# Altium schematic symbol library Schlib1.SchLib: 19 symbols (part 1 of 2)
Pins are listed as number, name and electrical type; pins without a type are passive.

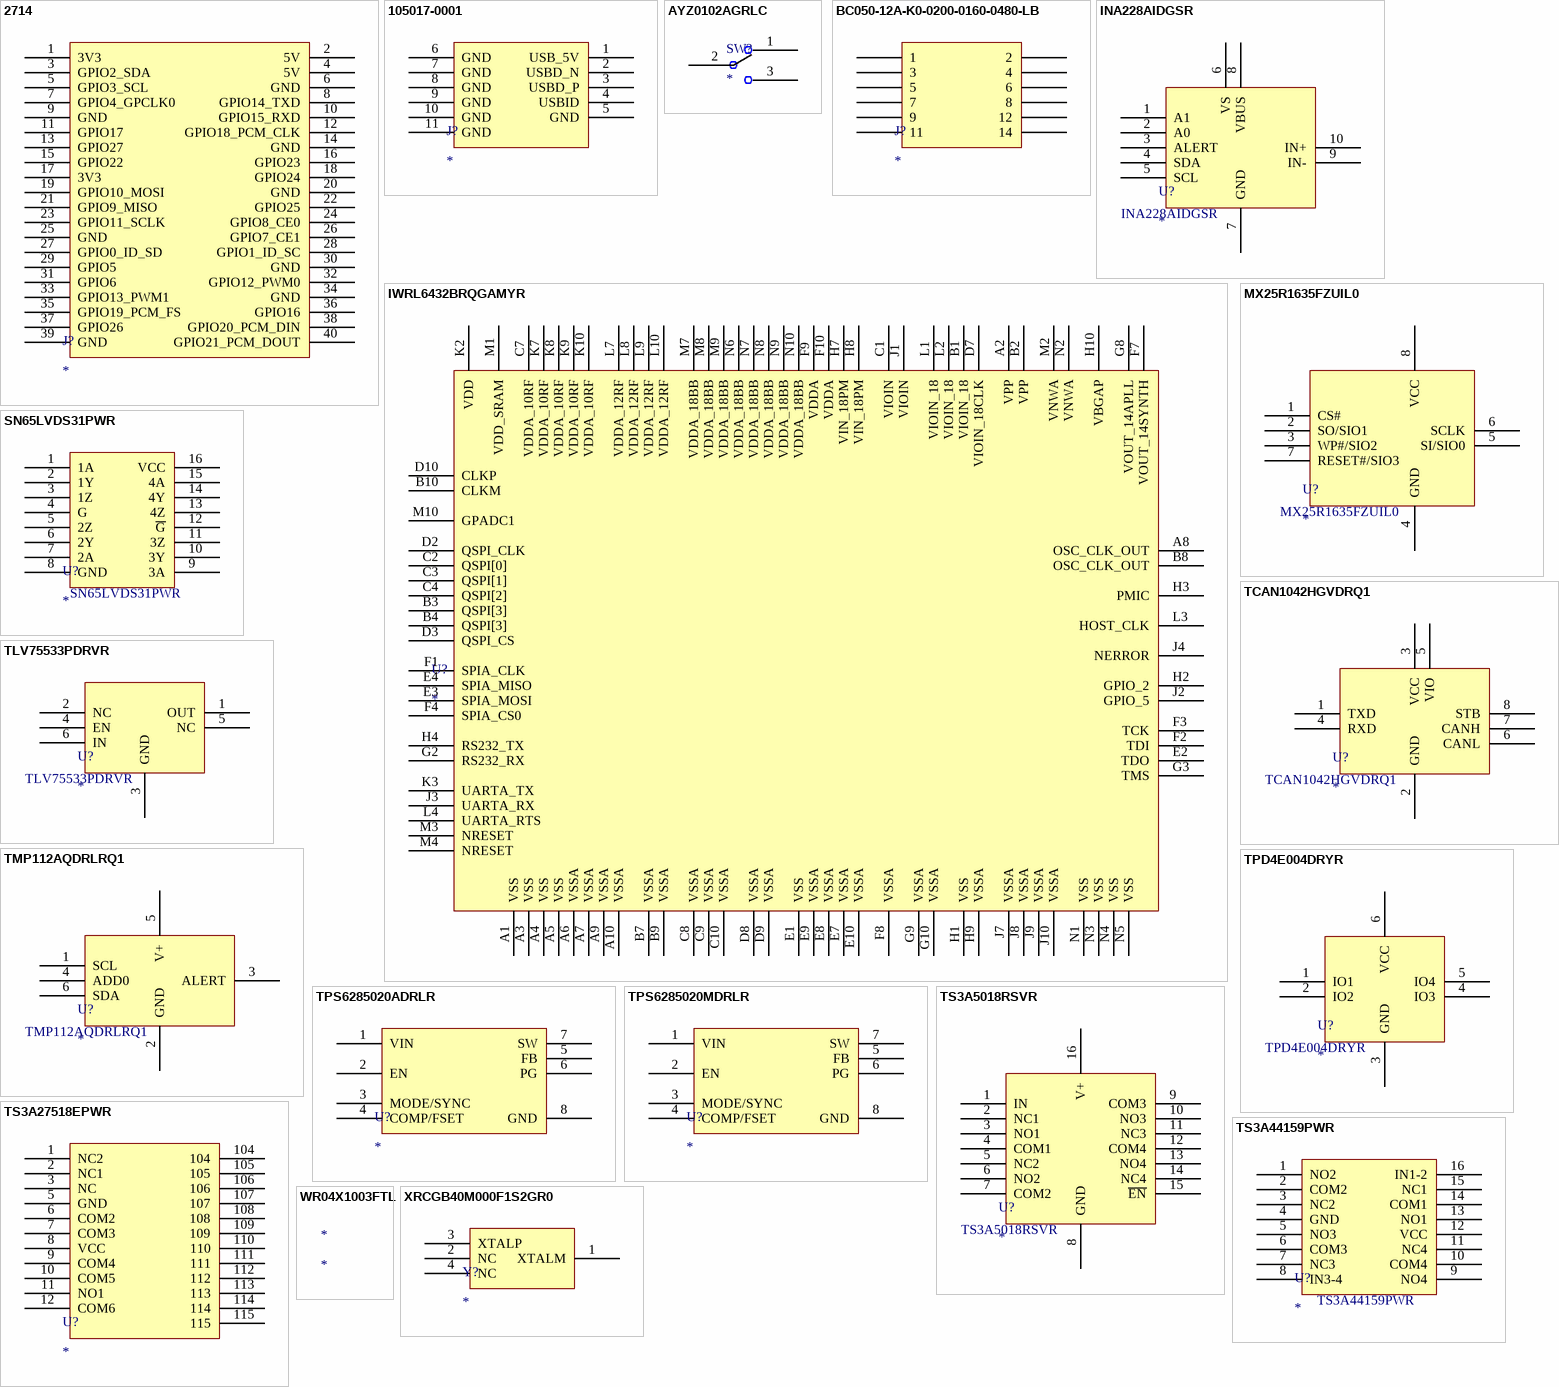
[diagram p0: symbols 2714 to XRCGB40M000F1S2GR0]

## 2714
designator J?
Extra-Tall Smt Gpio Header For Raspberry Pi Hat - 2X20 Extra Tall Female Header |Adafruit 2714; Manufacturer: Adafruit Industries; Manufacturer Part Number: 2714; Supplier: Arrow Electronics; Supplier Part Number: 2714; Category: Headers and Wire Housings; Stock: 1; Pricing: 1=2.95 (USD); RoHS: Non-Compliant; Schedule B: 8536694040, 8536694040|8536694040|8536694040|8536694040|8536694040
footprint 2714
pins: 1 3V3, 2 5V, 3 GPIO2_SDA, 4 5V, 5 GPIO3_SCL, 6 GND, 7 GPIO4_GPCLK0, 8 GPIO14_TXD, 9 GND, 10 GPIO15_RXD, 11 GPIO17, 12 GPIO18_PCM_CLK, 13 GPIO27, 14 GND, 15 GPIO22, 16 GPIO23, 17 3V3, 18 GPIO24, 19 GPIO10_MOSI, 20 GND, 21 GPIO9_MISO, 22 GPIO25, 23 GPIO11_SCLK, 24 GPIO8_CE0, 25 GND, 26 GPIO7_CE1, 27 GPIO0_ID_SD, 28 GPIO1_ID_SC, 29 GPIO5, 30 GND, 31 GPIO6, 32 GPIO12_PWM0, 33 GPIO13_PWM1, 34 GND, 35 GPIO19_PCM_FS, 36 GPIO16, 37 GPIO26, 38 GPIO20_PCM_DIN, 39 GND, 40 GPIO21_PCM_DOUT

## 105017-0001
designator J?
Conn Micro USB 2.0 Type B RCP 5 POS 0.65mm Solder RA SMD 5 Terminal 1 Port Micro-USB T/R; Manufacturer: Molex; Manufacturer Part Number: 105017-0001; Manufacturer Lifecycle Status: ACTIVE; Connector Type: Receptacle, USB; Contact Resistance: 30mΩ; Current Rating: 2.5A; Dielectric Material: Liquid Crystal Polymer; Gender: Female; Insulation Resistance: 1GΩ; Max Voltage Rating (AC): 30V; Number of Circuits: 5; Number of Ports: 1; Pitch: 650µm; Plating: Gold; USB Standard: USB 2.0; Supplier: DigiKey; Supplier Part Number: WM1399CT-ND; RoHS: Compliant; Category: USB Connectors; Stock: 13151; Pricing: 1=0.92, 10=0.785, 25=0.7356, 50=0.7004, 100=0.667, 250=0.62516, 500=0.59532, 1000=0.56688, 2000=0.53983, 4000=0.51407, 6000=0.49957, 10000=0.4819, 14000=0.47061, 20000=0.45893 (USD); China RoHS: Compliant; Contact Gender: Female; Contact Material: Brass; Contact Plating: Gold; Country of Origin: US; Depth: 7.5mm; Features: Shielded; Halogen Free: Low Halogen; Height: 2.825mm; Housing Material: Polymer; Length: 8.2mm; Lifecycle Status: Production; Max Operating Temperature: 85°C; Min Operating Temperature: -30°C; Mounting Technology: Surface Mount; Number of Contacts: 5; Pins: 5; Number of Positions: 5; Number of Rows: 1; Number of Terminals: 5; Orientation: Right Angle; Radiation Hardening: No; REACH SVHC: Yes; Schedule B: 8536695050, 8536695050|8536695050, 8536695050|8536695050|8536695050, 8536695050|8536695050|8536695050|8536695050; Shell Finish: Tin; Shell Material: Stainless Steel; Terminal Pitch: 650µm; Termination: Solder; Voltage Rating: 30V; Voltage Rating (AC): 30V; ComponentLink1URL: https://datasheet.octopart.com:443/1050170001-Molex-datasheet-142335147.pdf?src-supplier=IHS; ComponentLink1Description: https://datasheet.octopart.com:443/1050170001-Molex-datasheet-142335147.pdf?src-supplier=IHS; ComponentLink2URL: https://datasheet.octopart.com:443/105017-0001-Molex-datasheet-14876665.pdf?src-supplier=Upverter; ComponentLink2Description: https://datasheet.octopart.com:443/105017-0001-Molex-datasheet-14876665.pdf?src-supplier=Upverter; ComponentLink3URL: https://datasheet.octopart.com:443/105017-0001-Molex-datasheet-10100431.pdf?src-supplier=Upverter; ComponentLink3Description: https://datasheet.octopart.com:443/105017-0001-Molex-datasheet-10100431.pdf?src-supplier=Upverter; ComponentLink4URL: https://datasheet.octopart.com:443/1050170001-Molex-datasheet-8355809.pdf?src-supplier=Upverter; ComponentLink4Description: https://datasheet.octopart.com:443/1050170001-Molex-datasheet-8355809.pdf?src-supplier=Upverter; ComponentLink5URL: https://sigma.octopart.com:443/120074112/technical_drawing/Molex-1050170001.pdf?src-supplier=Upverter; ComponentLink5Description: https://sigma.octopart.com:443/120074112/technical_drawing/Molex-1050170001.pdf?src-supplier=Upverter; ComponentLink6URL: https://datasheet.octopart.com:443/105017-0001-Molex-datasheet-13746511.pdf?src-supplier=Sager+Electronics; ComponentLink6Description: https://datasheet.octopart.com:443/105017-0001-Molex-datasheet-13746511.pdf?src-supplier=Sager+Electronics; ComponentLink7URL: https://datasheet.octopart.com:443/105017-0001-Molex-datasheet-154742999.pdf?src-supplier=Master+Electronics; ComponentLink7Description: https://datasheet.octopart.com:443/105017-0001-Molex-datasheet-154742999.pdf?src-supplier=Master+Electronics; ComponentLink8URL: https://datasheet.octopart.com:443/105017-0001-Molex-datasheet-77519180.pdf?src-supplier=Newark; ComponentLink8Description: https://datasheet.octopart.com:443/105017-0001-Molex-datasheet-77519180.pdf?src-supplier=Newark; ComponentLink9URL: https://datasheet.octopart.com:443/105017-0001-Molex-datasheet-66628043.pdf?src-supplier=Newark; ComponentLink9Description: https://datasheet.octopart.com:443/105017-0001-Molex-datasheet-66628043.pdf?src-supplier=Newark; ComponentLink10URL: https://datasheet.octopart.com:443/105017-0001-Molex-datasheet-32867472.pdf?src-supplier=Farnell; ComponentLink10Description: https://datasheet.octopart.com:443/105017-0001-Molex-datasheet-32867472.pdf?src-supplier=Farnell; ComponentLink11URL: https://datasheet.octopart.com:443/105017-0001-Molex-datasheet-24907595.pdf?src-supplier=Farnell; ComponentLink11Description: https://datasheet.octopart.com:443/105017-0001-Molex-datasheet-24907595.pdf?src-supplier=Farnell; ComponentLink12URL: https://datasheet.octopart.com:443/105017-0001-Molex-datasheet-140174740.pdf?src-supplier=RS+(Formerly+Allied+Electronics); ComponentLink12Description: https://datasheet.octopart.com:443/105017-0001-Molex-datasheet-140174740.pdf?src-supplier=RS+(Formerly+Allied+Electronics); ComponentLink13URL: https://datasheet.octopart.com:443/105017-0001-Molex-datasheet-120135174.pdf?src-supplier=RS+(Formerly+Allied+Electronics); ComponentLink13Description: https://datasheet.octopart.com:443/105017-0001-Molex-datasheet-120135174.pdf?src-supplier=RS+(Formerly+Allied+Electronics); ComponentLink14URL: https://datasheet.octopart.com:443/1050170001-Molex-datasheet-137316104.pdf?src-supplier=Future+Electronics; ComponentLink14Description: https://datasheet.octopart.com:443/1050170001-Molex-datasheet-137316104.pdf?src-supplier=Future+Electronics; ComponentLink15URL: https://datasheet.octopart.com:443/105017-0001-Molex-datasheet-44399914.pdf?src-supplier=Electro+Sonic; ComponentLink15Description: https://datasheet.octopart.com:443/105017-0001-Molex-datasheet-44399914.pdf?src-supplier=Electro+Sonic; ComponentLink16URL: https://datasheet.octopart.com:443/105017-0001-Molex-datasheet-41578275.pdf?src-supplier=Electro+Sonic; ComponentLink16Description: https://datasheet.octopart.com:443/105017-0001-Molex-datasheet-41578275.pdf?src-supplier=Electro+Sonic; ComponentLink17URL: https://datasheet.octopart.com:443/105017-0001-Molex-datasheet-23708332.pdf?src-supplier=Electro+Sonic; ComponentLink17Description: https://datasheet.octopart.com:443/105017-0001-Molex-datasheet-23708332.pdf?src-supplier=Electro+Sonic; ComponentLink18URL: http://sigma.octopart.com:80/16324173/rohs_statement/Molex-105017-0001.pdf?src-supplier=Compliance+Statements; ComponentLink18Description: http://sigma.octopart.com:80/16324173/rohs_statement/Molex-105017-0001.pdf?src-supplier=Compliance+Statements; ComponentLink19URL: http://sigma.octopart.com:80/reach_statement/Molex-company-74.pdf?src-supplier=Compliance+Statements; ComponentLink19Description: http://sigma.octopart.com:80/reach_statement/Molex-company-74.pdf?src-supplier=Compliance+Statements; ComponentLink20URL: http://sigma.octopart.com:80/rohs_statement/Molex-company-73.pdf?src-supplier=Compliance+Statements; ComponentLink20Description: http://sigma.octopart.com:80/rohs_statement/Molex-company-73.pdf?src-supplier=Compliance+Statements; ComponentLink21URL: http://sigma.octopart.com:80/conflict_mineral_statement/Molex-company-72.pdf?src-supplier=Compliance+Statements; ComponentLink21Description: http://sigma.octopart.com:80/conflict_mineral_statement/Molex-company-72.pdf?src-supplier=Compliance+Statements
pins: 1 USB_5V, 2 USBD_N, 3 USBD_P, 4 USBID, 5 GND, 6 GND, 7 GND, 8 GND, 9 GND, 10 GND, 11 GND

## AYZ0102AGRLC
designator SW?
Switch Slide ON ON SPDT Side Slide 0.1A 12VDC 1.2VA 10000Cycles Gull Wing SMD T/R; Manufacturer: C&K Components; Manufacturer Part Number: AYZ0102AGRLC; Actuator Length: 990.6µm; Actuator Material: Glass, Glass fibre, Nylon, Polyamide; Contact Current Rating: 100mA; Contact Resistance: 80mΩ; Electrical Life: 10kcycles; Illumination Type: Non-Illuminated; Insulation Resistance: 100MΩ; Max Voltage Rating (DC): 12V; Number of Positions: 2; Switch Function: On-On; Supplier: DigiKey; Supplier Part Number: 401-2012-1-ND; RoHS: Compliant; Category: Slide Switches; Stock: 2625; Pricing: 1=1.47, 10=1.242, 25=1.1532, 100=1.0274, 250=0.95224, 500=0.90046, 1000=0.85332 (USD); Contact Material: Brass; Contact Plating: Silver; Current Rating: 100mA; Depth: 5.3mm; Height: 1.5mm; Housing Material: Glass; Lead Free: Lead Free; Length: 7.2mm; Life (Cycles): 10kcycles; Lifecycle Status: Production; Max Current Rating: 100mA; Max Operating Temperature: 60°C; Mechanical Life: 10kcycles; Min Operating Temperature: -10°C; Mounting Technology: Surface Mount; Packaging: Tape and Reel; Radiation Hardening: No; REACH SVHC: Yes; Termination: Gull Wing; Throw Configuration: SPDT; Voltage Rating (DC): 12V; ComponentLink1URL: https://datasheet.octopart.com:443/AYZ0102AGRLC-C%26K-Components-datasheet-166147748.pdf?src-supplier=Newark; ComponentLink1Description: https://datasheet.octopart.com:443/AYZ0102AGRLC-C%26K-Components-datasheet-166147748.pdf?src-supplier=Newark; ComponentLink2URL: https://datasheet.octopart.com:443/AYZ0102AGRLC-C%26K-Components-datasheet-112042524.pdf?src-supplier=Newark; ComponentLink2Description: https://datasheet.octopart.com:443/AYZ0102AGRLC-C%26K-Components-datasheet-112042524.pdf?src-supplier=Newark; ComponentLink3URL: https://datasheet.octopart.com:443/AYZ0102AGRLC-C%26K-Components-datasheet-62111143.pdf?src-supplier=Upverter; ComponentLink3Description: https://datasheet.octopart.com:443/AYZ0102AGRLC-C%26K-Components-datasheet-62111143.pdf?src-supplier=Upverter; ComponentLink4URL: https://datasheet.octopart.com:443/AYZ0102AGRLC-C%26K-Components-datasheet-154730551.pdf?src-supplier=Electro+Sonic; ComponentLink4Description: https://datasheet.octopart.com:443/AYZ0102AGRLC-C%26K-Components-datasheet-154730551.pdf?src-supplier=Electro+Sonic; ComponentLink5URL: https://datasheet.octopart.com:443/AYZ0102AGRLC-C%26K-Components-datasheet-24578869.pdf?src-supplier=Electro+Sonic; ComponentLink5Description: https://datasheet.octopart.com:443/AYZ0102AGRLC-C%26K-Components-datasheet-24578869.pdf?src-supplier=Electro+Sonic; ComponentLink6URL: https://datasheet.octopart.com:443/AYZ0102AGRLC-C%26K-Components-datasheet-13455995.pdf?src-supplier=Factory+Futures; ComponentLink6Description: https://datasheet.octopart.com:443/AYZ0102AGRLC-C%26K-Components-datasheet-13455995.pdf?src-supplier=Factory+Futures; ComponentLink7URL: https://datasheet.octopart.com:443/AYZ0102AGRLC-C%26K-Components-datasheet-8332833.pdf?src-supplier=Future+Electronics; ComponentLink7Description: https://datasheet.octopart.com:443/AYZ0102AGRLC-C%26K-Components-datasheet-8332833.pdf?src-supplier=Future+Electronics; ComponentLink8URL: http://sigma.octopart.com:80/reach_statement/ITT-company-18.pdf?src-supplier=Compliance+Statements; ComponentLink8Description: http://sigma.octopart.com:80/reach_statement/ITT-company-18.pdf?src-supplier=Compliance+Statements
pins: 1, 2, 3

## BC050-12A-K0-0200-0160-0480-LB
designator J?
Cross Referenced to GCT GLOBAL CONN TECH INC - Part GCTBC050-12A-K0-0200-0160-0480-LB; Manufacturer: Global Connector Technology; Contact Resistance: 20mΩ; Current Rating: 1A; Dielectric Material: Liquid Crystal Polymer; Insulation Resistance: 1GΩ; Number of Contacts: 12; Row Spacing: 4.3mm; Voltage Rating: 250V; Supplier: DigiKey; Supplier Part Number: 2073-BC050-12A-K0-0200-0160-0480-LBCT-ND; Manufacturer Part Number: BC050-12A-K0-0200-0160-0480-LB; RoHS: Compliant; Category: Card Edge Connectors; Stock: 1162; Pricing: 1=1.32, 10=1.124, 100=0.9548, 500=0.85222 (USD); China RoHS: Compliant; Contact Gender: Male; Contact Material: Gold, Nickel; Country of Origin: Mainland China; Export Control Classification Number (ECCN) Code: EAR99; Height: 4.1mm; Harmonized Tariff Schedule (HTS) Code: 8536.69.40.40; Introduction Date: 2009-12-21; Lifecycle Status: Production; Max Operating Temperature: 105°C; Min Operating Temperature: -40°C; Pins: 12; Number of Rows: 2; Orientation: Vertical; REACH SVHC: Yes; Terminal Pitch: 1mm; ComponentLink1URL: https://datasheet.octopart.com:443/BC050-12A-K0-0200-0160-0480-LB-Global-Connector-Technology-datasheet-170668596.pdf?src-supplier=IHS; ComponentLink1Description: https://datasheet.octopart.com:443/BC050-12A-K0-0200-0160-0480-LB-Global-Connector-Technology-datasheet-170668596.pdf?src-supplier=IHS; ComponentLink2URL: https://datasheet.octopart.com:443/BC050-12A-K0-0200-0160-0480-LB-GCT-datasheet-177708336.pdf?src-supplier=Sager+Electronics; ComponentLink2Description: https://datasheet.octopart.com:443/BC050-12A-K0-0200-0160-0480-LB-GCT-datasheet-177708336.pdf?src-supplier=Sager+Electronics; ComponentLink3URL: https://datasheet.octopart.com:443/BC050-12A-K0-0200-0160-0480-LB-GCT-datasheet-91940675.pdf?src-supplier=TME; ComponentLink3Description: https://datasheet.octopart.com:443/BC050-12A-K0-0200-0160-0480-LB-GCT-datasheet-91940675.pdf?src-supplier=TME
pins: 1, 2, 3, 4, 5, 6, 7, 8, 9, 11, 12, 14

## INA228AIDGSR
designator U?  Manufacturer Part Number: INA228AIDGSR
Power Supply Controller Digital Power Monitor 10-VSSOP; Manufacturer: Texas Instruments; Manufacturer Lifecycle Status: ACTIVE; Max Junction Temperature (Tj): 150°C; Max Supply Voltage: 5.5V; Min Supply Voltage: 2.7V; Nominal Supply Current: 640µA; Output Current: 10mA; Supplier: DigiKey; Supplier Part Number: 296-INA228AIDGSRCT-ND; RoHS: Compliant; Category: Amplifiers - Op Amps, Buffer, Instrumentation; Stock: 9303; Pricing: 1=4.54, 10=3.449, 25=3.1764, 100=2.8757, 250=2.73248, 500=2.64614, 1000=2.57506 (USD); Ambient Temperature Range High: 125°C; Case/Package: VSSOP; Height: 1.07mm; Length: 3mm; Lifecycle Status: Production; Max Operating Temperature: 125°C; Min Operating Temperature: -40°C; Pins: 10; Thickness: 1.02mm; Width: 3mm; ComponentLink1URL: https://octopart.com:443/opatz8j6/c1?t=q6NONEW8AX7LN8N68lH27o_HxXEYcM-WqTOOPzaugj7DKhWTy2sBZzIGxV_TEOML1dzIywFAuB0dUGeZVwhKaW8jnwYCWGkkE0bnaeo3h1uVGFGo-tzg7YSjiMHxt00KluOmphW6dFR22Q6IjMQmSZ8iSbk4j1-pYEBHh8xgoAjh1iQGJ7N3CD41AjCHaHj_hG4B5TF32lzV6Wp_D0YiEBMCmyQgiyMoYxcVZ05qa-7UME0i7u0DVfAu3xEoqDib40l1N05B6NtUnSGSODWWAFuUHPYZoDGYacyH3e9stYQTTxi4SlO6hwlYrfBPv44svJzRMRLb0xmJGNqxE2cKVGrWyAllk_yQdPdBHgLNNjgmulwFIYTq-WKGRqSmJVMAplwz8H4&src-supplier=Texas+Instruments; ComponentLink1Description: https://octopart.com:443/opatz8j6/c1?t=q6NONEW8AX7LN8N68lH27o_HxXEYcM-WqTOOPzaugj7DKhWTy2sBZzIGxV_TEOML1dzIywFAuB0dUGeZVwhKaW8jnwYCWGkkE0bnaeo3h1uVGFGo-tzg7YSjiMHxt00KluOmphW6dFR22Q6IjMQmSZ8iSbk4j1-pYEBHh8xgoAjh1iQGJ7N3CD41AjCHaHj_hG4B5TF32lzV6Wp_D0YiEBMCmyQgiyMoYxcVZ05qa-7UME0i7u0DVfAu3xEoqDib40l1N05B6NtUnSGSODWWAFuUHPYZoDGYacyH3e9stYQTTxi4SlO6hwlYrfBPv44svJzRMRLb0xmJGNqxE2cKVGrWyAllk_yQdPdBHgLNNjgmulwFIYTq-WKGRqSmJVMAplwz8H4&src-supplier=Texas+Instruments; ComponentLink2URL: https://datasheet.octopart.com:443/INA228AIDGSR-Texas-Instruments-datasheet-169774754.pdf?src-supplier=Upverter; ComponentLink2Description: https://datasheet.octopart.com:443/INA228AIDGSR-Texas-Instruments-datasheet-169774754.pdf?src-supplier=Upverter; ComponentLink3URL: https://datasheet.octopart.com:443/INA228AIDGSR-Texas-Instruments-datasheet-179556568.pdf?src-supplier=EBEE; ComponentLink3Description: https://datasheet.octopart.com:443/INA228AIDGSR-Texas-Instruments-datasheet-179556568.pdf?src-supplier=EBEE; ComponentLink4URL: https://datasheet.octopart.com:443/INA228AIDGSR-Texas-Instruments-datasheet-165811300.pdf?src-supplier=SHENGYU+ELECTRONICS; ComponentLink4Description: https://datasheet.octopart.com:443/INA228AIDGSR-Texas-Instruments-datasheet-165811300.pdf?src-supplier=SHENGYU+ELECTRONICS; ComponentLink5URL: http://sigma.octopart.com:80/conflict_mineral_statement/Texas-Instruments-company-63.pdf?src-supplier=Compliance+Statements; ComponentLink5Description: http://sigma.octopart.com:80/conflict_mineral_statement/Texas-Instruments-company-63.pdf?src-supplier=Compliance+Statements; ComponentLink6URL: http://sigma.octopart.com:80/reach_statement/Texas-Instruments-company-64.pdf?src-supplier=Compliance+Statements; ComponentLink6Description: http://sigma.octopart.com:80/reach_statement/Texas-Instruments-company-64.pdf?src-supplier=Compliance+Statements
pins: 1 A1, 2 A0, 3 ALERT, 4 SDA, 5 SCL, 6 VS, 7 GND, 8 VBUS, 9 IN-, 10 IN+

## IWRL6432BRQGAMYR
designator U?
Single-chip low-power 57GHz to 63.5GHz industrial mmWave radar sensor with integrated antenna 101-FCCSP -40 to 105; Manufacturer: Texas Instruments; Manufacturer Lifecycle Status: ACTIVE; Manufacturer Part Number: IWRL6432BRQGAMYR; Supplier: DigiKey; RoHS: Compliant; Category: Integrated Circuits (ICs); Stock: 660; Pricing: 1=23.37, 10=18.741, 25=17.5856, 100=16.3158, 250=15.71048, 500=15.6646 (USD); Length: 6.7mm; Lifecycle Status: Production; Pins: 101; Thickness: 590µm; Width: 10.9mm; ComponentLink1URL: https://octopart.com:443/opatz8j6/c1?t=Egb_erevs3RStRjh2mlmCnEG9Uh47Pzg3cSpCtnXbFqH-EuG7b0UoPeMwzv6uml3GcXCdAAsWgk-ti-PfCW5k-M0woeo87gnP9JZvt22ZJaH3HWiyj9uubX5N1ltG3cc81QDNrGR6m7xBTt8HxFxUmaG27JTVwD44xpwsGUwPa1RG5SeOAXVQNSJaaLYmU8pO3s9gbtCZkK0ggLPM9_OGtQjvX1SpQi-vOEjoET3vtit91p9E2u7nVmS6IIobeqpa7zFUum8qgXNzRGCQjFKIlVvGfdPqF4FtUiICJ4fmOmq-n0S25o2RTTJy4D3bFrDr4sBQpjhQeg-2d-r6gztwI7SmI0itX5aV5v5A0SyZ9Q0W32DfAc2XU4pqv4lxGxCeXTcFphh-YAX&src-supplier=Texas+Instruments; ComponentLink1Description: https://octopart.com:443/opatz8j6/c1?t=Egb_erevs3RStRjh2mlmCnEG9Uh47Pzg3cSpCtnXbFqH-EuG7b0UoPeMwzv6uml3GcXCdAAsWgk-ti-PfCW5k-M0woeo87gnP9JZvt22ZJaH3HWiyj9uubX5N1ltG3cc81QDNrGR6m7xBTt8HxFxUmaG27JTVwD44xpwsGUwPa1RG5SeOAXVQNSJaaLYmU8pO3s9gbtCZkK0ggLPM9_OGtQjvX1SpQi-vOEjoET3vtit91p9E2u7nVmS6IIobeqpa7zFUum8qgXNzRGCQjFKIlVvGfdPqF4FtUiICJ4fmOmq-n0S25o2RTTJy4D3bFrDr4sBQpjhQeg-2d-r6gztwI7SmI0itX5aV5v5A0SyZ9Q0W32DfAc2XU4pqv4lxGxCeXTcFphh-YAX&src-supplier=Texas+Instruments; ComponentLink2URL: https://datasheet.octopart.com:443/IWRL6432BRQGAMYR-Texas-Instruments-datasheet-191815078.pdf?src-supplier=LCSC; ComponentLink2Description: https://datasheet.octopart.com:443/IWRL6432BRQGAMYR-Texas-Instruments-datasheet-191815078.pdf?src-supplier=LCSC; ComponentLink3URL: http://sigma.octopart.com:80/reach_statement/Texas-Instruments-company-64.pdf?src-supplier=Compliance+Statements; ComponentLink3Description: http://sigma.octopart.com:80/reach_statement/Texas-Instruments-company-64.pdf?src-supplier=Compliance+Statements; ComponentLink4URL: http://sigma.octopart.com:80/conflict_mineral_statement/Texas-Instruments-company-63.pdf?src-supplier=Compliance+Statements; ComponentLink4Description: http://sigma.octopart.com:80/conflict_mineral_statement/Texas-Instruments-company-63.pdf?src-supplier=Compliance+Statements; Supplier Part Number: 296-IWRL6432BRQGAMYRCT-ND
pins: A1 VSS, A2 VPP, A3 VSS, A4 VSS, A5 VSS, A6 VSSA, A7 VSSA, A8 OSC_CLK_OUT, A9 VSSA, A10 VSSA, B1 VIOIN_18, B2 VPP, B3 QSPI[3], B4 QSPI[3], B7 VSSA, B8 OSC_CLK_OUT, B9 VSSA, B10 CLKM, C1 VIOIN, C2 QSPI[0], C3 QSPI[1], C4 QSPI[2], C7 VDDA_10RF, C8 VSSA, C9 VSSA, C10 VSSA, D2 QSPI_CLK, D3 QSPI_CS, D7 VIOIN_18CLK, D8 VSSA, D9 VSSA, D10 CLKP, E1 VSS, E2 TDO, E3 SPIA_MOSI, E4 SPIA_MISO, E7 VSSA, E8 VSSA, E9 VSSA, E10 VSSA, F1 SPIA_CLK, F2 TDI, F3 TCK, F4 SPIA_CS0, F7 VOUT_14SYNTH, F8 VSSA, F9 VDDA, F10 VDDA, G2 RS232_RX, G3 TMS, G8 VOUT_14APLL, G9 VSSA, G10 VSSA, H1 VSS, H2 GPIO_2, H3 PMIC, H4 RS232_TX, H7 VIN_18PM, H8 VIN_18PM, H9 VSSA, H10 VBGAP, J1 VIOIN, J2 GPIO_5, J3 UARTA_RX, J4 NERROR, J7 VSSA, J8 VSSA, J9 VSSA, J10 VSSA, K2 VDD, K3 UARTA_TX, K7 VDDA_10RF, K8 VDDA_10RF, K9 VDDA_10RF, K10 VDDA_10RF, L1 VIOIN_18, L2 VIOIN_18, L3 HOST_CLK, L4 UARTA_RTS, L7 VDDA_12RF, L8 VDDA_12RF, L9 VDDA_12RF, L10 VDDA_12RF, M1 VDD_SRAM, M2 VNWA, M3 NRESET, M4 NRESET, M7 VDDA_18BB, M8 VDDA_18BB, M9 VDDA_18BB, M10 GPADC1, N1 VSS, N2 VNWA, N3 VSS, N4 VSS, N5 VSS, N6 VDDA_18BB, N7 VDDA_18BB, N8 VDDA_18BB, N9 VDDA_18BB, N10 VDDA_18BB

## MX25R1635FZUIL0
designator U?  Manufacturer Part Number: MX25R1635FZUIL0
FLASH - NOR Memory IC 16Mbit SPI - Quad I/O 33 MHz 8-USON (2x3); Manufacturer: Macronix; Interface: Serial; Clock Frequency: 80MHz; Max Supply Voltage: 3.6V; Min Supply Voltage: 1.65V; Number of Circuits: 1; Operating Supply Voltage: 1.8V; Supplier: DigiKey; Supplier Part Number: 1092-1204-1-ND; RoHS: Compliant; Category: Flash; Stock: 52700; Pricing: 1=0.68, 10=0.642, 25=0.6244, 50=0.6112, 100=0.5977, 250=0.57984, 500=0.5663, 1000=0.55278, 5000=0.52174 (USD); Height - Seated (Max): 600µm; Lead Free: Lead Free; Length: 3mm; Lifecycle Status: Production; Max Operating Temperature: 85°C; Memory Format: FLASH; Min Operating Temperature: -40°C; Number of Terminals: 8; REACH SVHC: Yes; Terminal Pitch: 500µm; Width: 2mm; ComponentLink1URL: https://datasheet.octopart.com:443/MX25R1635FZUIL0-Macronix-datasheet-128065543.pdf?src-supplier=ODG+(Origin+Data+Global); ComponentLink1Description: https://datasheet.octopart.com:443/MX25R1635FZUIL0-Macronix-datasheet-128065543.pdf?src-supplier=ODG+(Origin+Data+Global); ComponentLink2URL: https://datasheet.octopart.com:443/MX25R1635FZUIL0-Macronix-datasheet-74389714.pdf?src-supplier=SHENGYU+ELECTRONICS; ComponentLink2Description: https://datasheet.octopart.com:443/MX25R1635FZUIL0-Macronix-datasheet-74389714.pdf?src-supplier=SHENGYU+ELECTRONICS; ComponentLink3URL: https://datasheet.octopart.com:443/MX25R1635FZUIL0-Macronix-datasheet-66499091.pdf?src-supplier=Future+Electronics; ComponentLink3Description: https://datasheet.octopart.com:443/MX25R1635FZUIL0-Macronix-datasheet-66499091.pdf?src-supplier=Future+Electronics; ComponentLink4URL: https://datasheet.octopart.com:443/MX25R1635FZUIL0-Macronix-datasheet-62139157.pdf?src-supplier=Future+Electronics; ComponentLink4Description: https://datasheet.octopart.com:443/MX25R1635FZUIL0-Macronix-datasheet-62139157.pdf?src-supplier=Future+Electronics
pins: 1 CS#, 2 SO/SIO1, 3 WP#/SIO2, 4 GND, 5 SI/SIO0, 6 SCLK, 7 RESET#/SIO3, 8 VCC

## SN65LVDS31PWR
designator U?  Manufacturer Part Number: SN65LVDS31PWR
4/0 Driver LVDS 16-TSSOP; Manufacturer: Texas Instruments; Manufacturer Lifecycle Status: ACTIVE; Data Rate: 400Mbps; Max Supply Voltage: 3.6V; Min Supply Voltage: 3V; Number of Channels: 4; Operating Supply Voltage: 3.3V; Propagation Delay: 4.5ns; Supplier: DigiKey; Supplier Part Number: 296-26363-1-ND; RoHS: Compliant; Category: Interface ICs; Stock: 2886; Pricing: 1=2.03, 10=1.496, 25=1.3632, 100=1.217, 250=1.14736, 500=1.10538, 1000=1.07081 (USD); Case/Package: TSSOP; Height: 1.2mm; Lead Free: Lead Free; Length: 5mm; Lifecycle Status: Production; Max Operating Temperature: 85°C; Min Operating Temperature: -40°C; Mounting Technology: Surface Mount; Number of Drivers: 4; Number of Elements: 4; Pins: 16; Number of Receivers: 4; Radiation Hardening: No; Schedule B: 8542390000, 8542390000|8542390000|8542390000|8542390000|8542390000; Thickness: 1mm; Turn-On Delay Time: 4.5ns; Weight: 62.99264mg; Width: 4.4mm; ComponentLink1URL: https://sigma.octopart.com:443/189718192/technical_drawing/Texas-Instruments-SN65LVDS31PWR.pdf?src-supplier=Texas+Instruments; ComponentLink1Description: https://sigma.octopart.com:443/189718192/technical_drawing/Texas-Instruments-SN65LVDS31PWR.pdf?src-supplier=Texas+Instruments; ComponentLink2URL: https://octopart.com:443/opatz8j6/c1?t=UQzUj4bvY4PK3lGUiDrsBgPmMpiZL2ntNi_pJzSXV0gH4Xop-PbnY0ubiYakhzyifC123barFcotEsN0xRDvjQdWZkMEgUwfdOcsjbZ9lS9jUj6wT2QtM4EPkV4DCfkri3JcGFeCj5YM8UQM3bx32wBTUn24xxzjy4eDyom3xhU_zpP0QSC0Jkxtd049lkz9Z054RItpRMWUB6UdkTBvwXYrLxhNBw06aUfk5CWUrXsP9x3shJ-laUAavOmYkZQapcb63qFWVDg0Ue4kI9j_khI0_0Jfe04ZEpy1CsvNQCNwPqlbC4GMXAEeksVqKWfwYP7cjh2_uErpIkNIYFtu7RbZQ3lwYh-WF-9-8UYOJHpHIjE8ABa91NWWYF63sKp7hJAx_WNv&src-supplier=Texas+Instruments; ComponentLink2Description: https://octopart.com:443/opatz8j6/c1?t=UQzUj4bvY4PK3lGUiDrsBgPmMpiZL2ntNi_pJzSXV0gH4Xop-PbnY0ubiYakhzyifC123barFcotEsN0xRDvjQdWZkMEgUwfdOcsjbZ9lS9jUj6wT2QtM4EPkV4DCfkri3JcGFeCj5YM8UQM3bx32wBTUn24xxzjy4eDyom3xhU_zpP0QSC0Jkxtd049lkz9Z054RItpRMWUB6UdkTBvwXYrLxhNBw06aUfk5CWUrXsP9x3shJ-laUAavOmYkZQapcb63qFWVDg0Ue4kI9j_khI0_0Jfe04ZEpy1CsvNQCNwPqlbC4GMXAEeksVqKWfwYP7cjh2_uErpIkNIYFtu7RbZQ3lwYh-WF-9-8UYOJHpHIjE8ABa91NWWYF63sKp7hJAx_WNv&src-supplier=Texas+Instruments; ComponentLink3URL: https://sigma.octopart.com:443/116621398/technical_drawing/Texas-Instruments-SN65LVDS31PWR.pdf?src-supplier=Texas+Instruments; ComponentLink3Description: https://sigma.octopart.com:443/116621398/technical_drawing/Texas-Instruments-SN65LVDS31PWR.pdf?src-supplier=Texas+Instruments; ComponentLink4URL: https://datasheet.octopart.com:443/SN65LVDS31PWR-Texas-Instruments-datasheet-41214196.pdf?src-supplier=Texas+Instruments; ComponentLink4Description: https://datasheet.octopart.com:443/SN65LVDS31PWR-Texas-Instruments-datasheet-41214196.pdf?src-supplier=Texas+Instruments; ComponentLink5URL: https://datasheet.octopart.com:443/SN65LVDS31PWR-Texas-Instruments-datasheet-34153125.pdf?src-supplier=Texas+Instruments; ComponentLink5Description: https://datasheet.octopart.com:443/SN65LVDS31PWR-Texas-Instruments-datasheet-34153125.pdf?src-supplier=Texas+Instruments; ComponentLink6URL: https://datasheet.octopart.com:443/SN65LVDS31PWR-Texas-Instruments-datasheet-10256935.pdf?src-supplier=Texas+Instruments; ComponentLink6Description: https://datasheet.octopart.com:443/SN65LVDS31PWR-Texas-Instruments-datasheet-10256935.pdf?src-supplier=Texas+Instruments; ComponentLink7URL: https://sigma.octopart.com:443/49249815/technical_drawing/Texas-Instruments-SN65LVDS31PWR.pdf?src-supplier=Texas+Instruments; ComponentLink7Description: https://sigma.octopart.com:443/49249815/technical_drawing/Texas-Instruments-SN65LVDS31PWR.pdf?src-supplier=Texas+Instruments; ComponentLink8URL: https://datasheet.octopart.com:443/SN65LVDS31PWR-Texas-Instruments-datasheet-149191.pdf?src-supplier=Texas+Instruments; ComponentLink8Description: https://datasheet.octopart.com:443/SN65LVDS31PWR-Texas-Instruments-datasheet-149191.pdf?src-supplier=Texas+Instruments; ComponentLink9URL: https://datasheet.octopart.com:443/SN65LVDS31PWR-Texas-Instruments-datasheet-10255000.pdf?src-supplier=Texas+Instruments; ComponentLink9Description: https://datasheet.octopart.com:443/SN65LVDS31PWR-Texas-Instruments-datasheet-10255000.pdf?src-supplier=Texas+Instruments; ComponentLink10URL: https://datasheet.octopart.com:443/SN65LVDS31PWR-Texas-Instruments-datasheet-166015965.pdf?src-supplier=LCSC; ComponentLink10Description: https://datasheet.octopart.com:443/SN65LVDS31PWR-Texas-Instruments-datasheet-166015965.pdf?src-supplier=LCSC; ComponentLink11URL: https://datasheet.octopart.com:443/SN65LVDS31PWR-Texas-Instruments-datasheet-159115731.pdf?src-supplier=LCSC; ComponentLink11Description: https://datasheet.octopart.com:443/SN65LVDS31PWR-Texas-Instruments-datasheet-159115731.pdf?src-supplier=LCSC; ComponentLink12URL: https://datasheet.octopart.com:443/SN65LVDS31PWR-Texas-Instruments-datasheet-151051515.pdf?src-supplier=SHENGYU+ELECTRONICS; ComponentLink12Description: https://datasheet.octopart.com:443/SN65LVDS31PWR-Texas-Instruments-datasheet-151051515.pdf?src-supplier=SHENGYU+ELECTRONICS; ComponentLink13URL: https://datasheet.octopart.com:443/SN65LVDS31PWR-Texas-Instruments-datasheet-62313682.pdf?src-supplier=Newark; ComponentLink13Description: https://datasheet.octopart.com:443/SN65LVDS31PWR-Texas-Instruments-datasheet-62313682.pdf?src-supplier=Newark; ComponentLink14URL: https://datasheet.octopart.com:443/SN65LVDS31PWR-Texas-Instruments-datasheet-38329798.pdf?src-supplier=Newark; ComponentLink14Description: https://datasheet.octopart.com:443/SN65LVDS31PWR-Texas-Instruments-datasheet-38329798.pdf?src-supplier=Newark; ComponentLink15URL: https://datasheet.octopart.com:443/SN65LVDS31PWR-Texas-Instruments-datasheet-33018633.pdf?src-supplier=Newark; ComponentLink15Description: https://datasheet.octopart.com:443/SN65LVDS31PWR-Texas-Instruments-datasheet-33018633.pdf?src-supplier=Newark; ComponentLink16URL: https://datasheet.octopart.com:443/SN65LVDS31PWR-Texas-Instruments-datasheet-17022163.pdf?src-supplier=Newark; ComponentLink16Description: https://datasheet.octopart.com:443/SN65LVDS31PWR-Texas-Instruments-datasheet-17022163.pdf?src-supplier=Newark; ComponentLink17URL: https://datasheet.octopart.com:443/SN65LVDS31PWR-Texas-Instruments-datasheet-137316104.pdf?src-supplier=Future+Electronics; ComponentLink17Description: https://datasheet.octopart.com:443/SN65LVDS31PWR-Texas-Instruments-datasheet-137316104.pdf?src-supplier=Future+Electronics; ComponentLink18URL: https://datasheet.octopart.com:443/SN65LVDS31PWR-Texas-Instruments-datasheet-35492.pdf?src-supplier=Mouser; ComponentLink18Description: https://datasheet.octopart.com:443/SN65LVDS31PWR-Texas-Instruments-datasheet-35492.pdf?src-supplier=Mouser; ComponentLink19URL: http://sigma.octopart.com:80/conflict_mineral_statement/Texas-Instruments-company-63.pdf?src-supplier=Compliance+Statements; ComponentLink19Description: http://sigma.octopart.com:80/conflict_mineral_statement/Texas-Instruments-company-63.pdf?src-supplier=Compliance+Statements; ComponentLink20URL: http://sigma.octopart.com:80/reach_statement/Texas-Instruments-company-64.pdf?src-supplier=Compliance+Statements; ComponentLink20Description: http://sigma.octopart.com:80/reach_statement/Texas-Instruments-company-64.pdf?src-supplier=Compliance+Statements
pins: 1 1A, 2 1Y, 3 1Z, 4 G, 5 2Z, 6 2Y, 7 2A, 8 GND, 9 3A, 10 3Y, 11 3Z, 12 ~{G}, 13 4Z, 14 4Y, 15 4A, 16 VCC

## TCAN1042HGVDRQ1
designator U?  Manufacturer Part Number: TCAN1042HGVDRQ1
1/1 Transceiver CANbus 8-SOIC; Manufacturer: Texas Instruments; Manufacturer Lifecycle Status: ACTIVE; Data Rate: 5Mbps; Interface: CAN; Max Junction Temperature (Tj): 150°C; Max Supply Voltage: 5.5V; Min Supply Voltage: 4.5V; Number of Receive Buffers: 1; Receiver Hysteresis: 120mV; Supplier: DigiKey; Supplier Part Number: 296-43936-1-ND; RoHS: Compliant; Category: CAN Transceivers; Stock: 3499; Pricing: 1=1.96, 10=1.448, 25=1.3188, 100=1.1767, 250=1.109, 500=1.0682, 1000=1.03459 (USD); Case/Package: SOIC; Height: 1.75mm; Lead Free: Lead Free; Length: 4.9mm; Lifecycle Status: Production; Max Operating Temperature: 125°C; Min Operating Temperature: -55°C; Mounting Technology: Surface Mount; Pins: 8; Number of Transmit Buffers: 1; Packaging: Cut Tape; REACH SVHC: No; Schedule B: 8542390000, 8542390000|8542390000|8542390000|8542390000|8542390000; Thickness: 1.58mm; Width: 3.91mm; ComponentLink1URL: https://octopart.com:443/opatz8j6/c1?t=cOw8jo6puMCwGdmRxtxSIFF970aqgL-5bEvspca7Zn4J0IpB8J5nrRoaknfMISgfiCWTKaU0nPqqkYUHv5yM9yAS51Uk9K__REIY-yRZTfq1yEyw6X5iGbhZ_J1jsoKvkpwi4WrJBir0fLLG2Ajg8QIcIFmQg4Iyev0jOm8EZJhPOFQIhAxmoaTCnhpis1nF81m9ycbA0ScOeQLH3WsQyEtkBxRAICMAYa_gwv2VkXt1gos5VAEpuq3i1u-MxVfvByHEC6EL98Um3ly3C9l6t_OMFVKNqMrzf66tF-Rhi-k7MUf9dZWVfWqA-3iY3vfiFWrl40z53VaA_-cXXebufw5RSf0Co3U4s4TxWsbtBy1nC2CCksoXHgcuezG8TgApSMBC159N4HMiscn_&src-supplier=Texas+Instruments; ComponentLink1Description: https://octopart.com:443/opatz8j6/c1?t=cOw8jo6puMCwGdmRxtxSIFF970aqgL-5bEvspca7Zn4J0IpB8J5nrRoaknfMISgfiCWTKaU0nPqqkYUHv5yM9yAS51Uk9K__REIY-yRZTfq1yEyw6X5iGbhZ_J1jsoKvkpwi4WrJBir0fLLG2Ajg8QIcIFmQg4Iyev0jOm8EZJhPOFQIhAxmoaTCnhpis1nF81m9ycbA0ScOeQLH3WsQyEtkBxRAICMAYa_gwv2VkXt1gos5VAEpuq3i1u-MxVfvByHEC6EL98Um3ly3C9l6t_OMFVKNqMrzf66tF-Rhi-k7MUf9dZWVfWqA-3iY3vfiFWrl40z53VaA_-cXXebufw5RSf0Co3U4s4TxWsbtBy1nC2CCksoXHgcuezG8TgApSMBC159N4HMiscn_&src-supplier=Texas+Instruments; ComponentLink2URL: https://datasheet.octopart.com:443/TCAN1042HGVDRQ1-Texas-Instruments-datasheet-62086755.pdf?src-supplier=Texas+Instruments; ComponentLink2Description: https://datasheet.octopart.com:443/TCAN1042HGVDRQ1-Texas-Instruments-datasheet-62086755.pdf?src-supplier=Texas+Instruments; ComponentLink3URL: https://sigma.octopart.com:443/49249642/technical_drawing/Texas-Instruments-TCAN1042HGVDRQ1.pdf?src-supplier=Texas+Instruments; ComponentLink3Description: https://sigma.octopart.com:443/49249642/technical_drawing/Texas-Instruments-TCAN1042HGVDRQ1.pdf?src-supplier=Texas+Instruments; ComponentLink4URL: https://datasheet.octopart.com:443/TCAN1042HGVDRQ1-Texas-Instruments-datasheet-150528882.pdf?src-supplier=SHENGYU+ELECTRONICS; ComponentLink4Description: https://datasheet.octopart.com:443/TCAN1042HGVDRQ1-Texas-Instruments-datasheet-150528882.pdf?src-supplier=SHENGYU+ELECTRONICS; ComponentLink5URL: https://datasheet.octopart.com:443/TCAN1042HGVDRQ1-Texas-Instruments-datasheet-65713518.pdf?src-supplier=element14+APAC; ComponentLink5Description: https://datasheet.octopart.com:443/TCAN1042HGVDRQ1-Texas-Instruments-datasheet-65713518.pdf?src-supplier=element14+APAC; ComponentLink6URL: https://datasheet.octopart.com:443/TCAN1042HGVDRQ1-Texas-Instruments-datasheet-62292556.pdf?src-supplier=Farnell; ComponentLink6Description: https://datasheet.octopart.com:443/TCAN1042HGVDRQ1-Texas-Instruments-datasheet-62292556.pdf?src-supplier=Farnell; ComponentLink7URL: https://datasheet.octopart.com:443/TCAN1042HGVDRQ1-Texas-Instruments-datasheet-62283088.pdf?src-supplier=Farnell; ComponentLink7Description: https://datasheet.octopart.com:443/TCAN1042HGVDRQ1-Texas-Instruments-datasheet-62283088.pdf?src-supplier=Farnell; ComponentLink8URL: https://datasheet.octopart.com:443/TCAN1042HGVDRQ1-Texas-Instruments-datasheet-165804549.pdf?src-supplier=LCSC; ComponentLink8Description: https://datasheet.octopart.com:443/TCAN1042HGVDRQ1-Texas-Instruments-datasheet-165804549.pdf?src-supplier=LCSC; ComponentLink9URL: https://datasheet.octopart.com:443/TCAN1042HGVDRQ1-Texas-Instruments-datasheet-163726862.pdf?src-supplier=LCSC; ComponentLink9Description: https://datasheet.octopart.com:443/TCAN1042HGVDRQ1-Texas-Instruments-datasheet-163726862.pdf?src-supplier=LCSC; ComponentLink10URL: https://datasheet.octopart.com:443/TCAN1042HGVDRQ1-Texas-Instruments-datasheet-137316104.pdf?src-supplier=Future+Electronics; ComponentLink10Description: https://datasheet.octopart.com:443/TCAN1042HGVDRQ1-Texas-Instruments-datasheet-137316104.pdf?src-supplier=Future+Electronics; ComponentLink11URL: http://sigma.octopart.com:80/conflict_mineral_statement/Texas-Instruments-company-63.pdf?src-supplier=Compliance+Statements; ComponentLink11Description: http://sigma.octopart.com:80/conflict_mineral_statement/Texas-Instruments-company-63.pdf?src-supplier=Compliance+Statements; ComponentLink12URL: http://sigma.octopart.com:80/reach_statement/Texas-Instruments-company-64.pdf?src-supplier=Compliance+Statements; ComponentLink12Description: http://sigma.octopart.com:80/reach_statement/Texas-Instruments-company-64.pdf?src-supplier=Compliance+Statements
pins: 1 TXD, 2 GND, 3 VCC, 4 RXD, 5 VIO, 6 CANL, 7 CANH, 8 STB

## TLV75533PDRVR
designator U?  Manufacturer Part Number: TLV75533PDRVR
Linear Voltage Regulator IC Positive Fixed 1 Output 500mA 6-WSON (2x2); Manufacturer: Texas Instruments; Manufacturer Lifecycle Status: ACTIVE; Accuracy: 1.5%; Dropout Voltage: 250mV; Max Junction Temperature (Tj): 125°C; Max Supply Voltage: 5.5V; Min Supply Voltage: 3.55V; Nominal Supply Current: 25µA; Number of Channels: 1; Output Voltage: 3.3V; Supplier: DigiKey; Supplier Part Number: 296-51807-1-ND; RoHS: Compliant; Category: LDO Voltage Regulators; Stock: 32808; Pricing: 1=0.38, 10=0.265, 25=0.2364, 100=0.2042, 250=0.18884, 500=0.17962, 1000=0.17201 (USD); Height: 800µm; Length: 2mm; Lifecycle Status: Production; Max Operating Temperature: 125°C; Min Operating Temperature: -40°C; Number of Outputs: 1; Pins: 6; Output Current: 500mA; Schedule B: 8542390000; Thickness: 750µm; Width: 2mm; ComponentLink1URL: https://octopart.com:443/opatz8j6/c1?t=CWk5zN1ID5OaTeOlleYTZrhjHF4NS3kfK1qNlHMNkc8n_U5t63gW8gpkLyhOphUNdVEBy0okE1q47W4hpeHQezbIqCTw4lD6I4neKpIkIL8-NECWJXJdX-pR3UNP3V4ealCQZWkI2TrJePwUlUyhg7gduzciQLWBWIvYZLHeKz9XKMTYq7Kjrv2mk7Q7JZrUGSefltjCpjF7ye-aSV_VSnSF6Ssr7ifyzj-Iy-UVgMpqPEE6n4Py-580YHHDSM69Lu5fjdazqs3M4fRhPD9lOuMBBv5pl6g5e2g1nGEl79UWol24SU_C1hOx8_MmzbNLoOovvtHtsERbWPIx2zCEBe02MVXX-kvfBVQ7HrNvuXUa1vPsgg92tnf4ifX8_Qg69Y2TCw&src-supplier=Texas+Instruments; ComponentLink1Description: https://octopart.com:443/opatz8j6/c1?t=CWk5zN1ID5OaTeOlleYTZrhjHF4NS3kfK1qNlHMNkc8n_U5t63gW8gpkLyhOphUNdVEBy0okE1q47W4hpeHQezbIqCTw4lD6I4neKpIkIL8-NECWJXJdX-pR3UNP3V4ealCQZWkI2TrJePwUlUyhg7gduzciQLWBWIvYZLHeKz9XKMTYq7Kjrv2mk7Q7JZrUGSefltjCpjF7ye-aSV_VSnSF6Ssr7ifyzj-Iy-UVgMpqPEE6n4Py-580YHHDSM69Lu5fjdazqs3M4fRhPD9lOuMBBv5pl6g5e2g1nGEl79UWol24SU_C1hOx8_MmzbNLoOovvtHtsERbWPIx2zCEBe02MVXX-kvfBVQ7HrNvuXUa1vPsgg92tnf4ifX8_Qg69Y2TCw&src-supplier=Texas+Instruments; ComponentLink2URL: https://sigma.octopart.com:443/101810328/technical_drawing/Texas-Instruments-TLV75533PDRVR.pdf?src-supplier=Texas+Instruments; ComponentLink2Description: https://sigma.octopart.com:443/101810328/technical_drawing/Texas-Instruments-TLV75533PDRVR.pdf?src-supplier=Texas+Instruments; ComponentLink3URL: https://datasheet.octopart.com:443/TLV75533PDRVR-Texas-Instruments-datasheet-148775085.pdf?src-supplier=Upverter; ComponentLink3Description: https://datasheet.octopart.com:443/TLV75533PDRVR-Texas-Instruments-datasheet-148775085.pdf?src-supplier=Upverter; ComponentLink4URL: https://datasheet.octopart.com:443/TLV75533PDRVR-Texas-Instruments-datasheet-150455022.pdf?src-supplier=Augswan; ComponentLink4Description: https://datasheet.octopart.com:443/TLV75533PDRVR-Texas-Instruments-datasheet-150455022.pdf?src-supplier=Augswan; ComponentLink5URL: https://datasheet.octopart.com:443/TLV75533PDRVR-Texas-Instruments-datasheet-165804640.pdf?src-supplier=LCSC; ComponentLink5Description: https://datasheet.octopart.com:443/TLV75533PDRVR-Texas-Instruments-datasheet-165804640.pdf?src-supplier=LCSC; ComponentLink6URL: http://sigma.octopart.com:80/reach_statement/Texas-Instruments-company-64.pdf?src-supplier=Compliance+Statements; ComponentLink6Description: http://sigma.octopart.com:80/reach_statement/Texas-Instruments-company-64.pdf?src-supplier=Compliance+Statements; ComponentLink7URL: http://sigma.octopart.com:80/conflict_mineral_statement/Texas-Instruments-company-63.pdf?src-supplier=Compliance+Statements; ComponentLink7Description: http://sigma.octopart.com:80/conflict_mineral_statement/Texas-Instruments-company-63.pdf?src-supplier=Compliance+Statements
pins: 1 OUT, 2 NC, 3 GND, 4 EN, 5 NC, 6 IN

## TMP112AQDRLRQ1
designator U?  Manufacturer Part Number: TMP112AQDRLRQ1
Temperature Sensor Digital, Local -40°C ~ 125°C 12 b SOT-5X3; Manufacturer: Texas Instruments; Manufacturer Lifecycle Status: ACTIVE; Interface: 2-Wire, I2C, SMBus; Max Junction Temperature (Tj): 150°C; Max Supply Voltage: 3.6V; Min Supply Voltage: 1.4V; Operating Supply Current: 7µA; Output Type: Digital, I2C; Output Voltage: 5V; Resolution: 1.375B; Supplier: DigiKey; Supplier Part Number: 296-47223-1-ND; RoHS: Compliant; Category: Temperature and Humidity Sensors; Stock: 2734; Pricing: 1=1.46, 5=1.288, 10=1.226, 25=1.1516, 50=1.1008, 100=1.0542, 500=0.96064, 1000=0.92582 (USD); Ambient Temperature Range High: 125°C; Case/Package: SOT-563; Contact Plating: Gold, Silver; Height: 600µm; Lead Free: Lead Free; Length: 1.6mm; Lifecycle Status: Production; Max Operating Temperature: 125°C; Min Operating Temperature: -40°C; Mounting Technology: Surface Mount; Pins: 6; Operating Supply Voltage: 3.6V; Packaging: Tape & Reel (TR); Quiescent Current: 7µA; Schedule B: 8542390000; Thickness: 550µm; Width: 1.2mm; ComponentLink1URL: https://sigma.octopart.com:443/181443429/technical_drawing/Texas-Instruments-TMP112AQDRLRQ1.pdf?src-supplier=Texas+Instruments; ComponentLink1Description: https://sigma.octopart.com:443/181443429/technical_drawing/Texas-Instruments-TMP112AQDRLRQ1.pdf?src-supplier=Texas+Instruments; ComponentLink2URL: https://octopart.com:443/opatz8j6/c1?t=d-WR4rG2fhOKcVYVGlSAakqdAut2yjiJlhxTEUyHphcY5qg6FzPDGgyMU1SJtPsqKlyY3uQjhD0hBOCe6rbQBtmud8aHPk7AZdQ-WHdDypvXJUpLYEumh9g61pFgl9A2WzstpHEZmk8VFar2G5OaTWLL7yz2jT4oKl_94vOojJKyuR78GxWZwRqE2TXsJVUDTPnXQJ-j4B6zbvCIXDwifVKlnadQyEo5cFY_zFr8bFPxqyhBzoq5RKqS_atfySzojfekch8r4x0l6rSlo_E5cceN8mGBp5PeepEQfnur0qCF4fu1OluVCDHgXmQIUOCLN5ZZi9FFO2h2Z9P_z_8QYLJcQ3zxir3DbZn-h1jUGjEPJ_QpX7yUqrUvoFI8EjlyShbEjl6vqA&src-supplier=Texas+Instruments; ComponentLink2Description: https://octopart.com:443/opatz8j6/c1?t=d-WR4rG2fhOKcVYVGlSAakqdAut2yjiJlhxTEUyHphcY5qg6FzPDGgyMU1SJtPsqKlyY3uQjhD0hBOCe6rbQBtmud8aHPk7AZdQ-WHdDypvXJUpLYEumh9g61pFgl9A2WzstpHEZmk8VFar2G5OaTWLL7yz2jT4oKl_94vOojJKyuR78GxWZwRqE2TXsJVUDTPnXQJ-j4B6zbvCIXDwifVKlnadQyEo5cFY_zFr8bFPxqyhBzoq5RKqS_atfySzojfekch8r4x0l6rSlo_E5cceN8mGBp5PeepEQfnur0qCF4fu1OluVCDHgXmQIUOCLN5ZZi9FFO2h2Z9P_z_8QYLJcQ3zxir3DbZn-h1jUGjEPJ_QpX7yUqrUvoFI8EjlyShbEjl6vqA&src-supplier=Texas+Instruments; ComponentLink3URL: https://sigma.octopart.com:443/179311942/technical_drawing/Texas-Instruments-TMP112AQDRLRQ1.pdf?src-supplier=Texas+Instruments; ComponentLink3Description: https://sigma.octopart.com:443/179311942/technical_drawing/Texas-Instruments-TMP112AQDRLRQ1.pdf?src-supplier=Texas+Instruments; ComponentLink4URL: https://sigma.octopart.com:443/158890725/technical_drawing/Texas-Instruments-TMP112AQDRLRQ1.pdf?src-supplier=Texas+Instruments; ComponentLink4Description: https://sigma.octopart.com:443/158890725/technical_drawing/Texas-Instruments-TMP112AQDRLRQ1.pdf?src-supplier=Texas+Instruments; ComponentLink5URL: https://sigma.octopart.com:443/149978429/technical_drawing/Texas-Instruments-TMP112AQDRLRQ1.pdf?src-supplier=Texas+Instruments; ComponentLink5Description: https://sigma.octopart.com:443/149978429/technical_drawing/Texas-Instruments-TMP112AQDRLRQ1.pdf?src-supplier=Texas+Instruments; ComponentLink6URL: https://datasheet.octopart.com:443/TMP112AQDRLRQ1-Texas-Instruments-datasheet-38890616.pdf?src-supplier=Texas+Instruments; ComponentLink6Description: https://datasheet.octopart.com:443/TMP112AQDRLRQ1-Texas-Instruments-datasheet-38890616.pdf?src-supplier=Texas+Instruments; ComponentLink7URL: https://datasheet.octopart.com:443/TMP112AQDRLRQ1-Texas-Instruments-datasheet-33026102.pdf?src-supplier=Texas+Instruments; ComponentLink7Description: https://datasheet.octopart.com:443/TMP112AQDRLRQ1-Texas-Instruments-datasheet-33026102.pdf?src-supplier=Texas+Instruments; ComponentLink8URL: https://datasheet.octopart.com:443/TMP112AQDRLRQ1-Texas-Instruments-datasheet-32537291.pdf?src-supplier=Texas+Instruments; ComponentLink8Description: https://datasheet.octopart.com:443/TMP112AQDRLRQ1-Texas-Instruments-datasheet-32537291.pdf?src-supplier=Texas+Instruments; ComponentLink9URL: https://datasheet.octopart.com:443/TMP112AQDRLRQ1-Texas-Instruments-datasheet-32037704.pdf?src-supplier=Texas+Instruments; ComponentLink9Description: https://datasheet.octopart.com:443/TMP112AQDRLRQ1-Texas-Instruments-datasheet-32037704.pdf?src-supplier=Texas+Instruments; ComponentLink10URL: https://sigma.octopart.com:443/49249987/technical_drawing/Texas-Instruments-TMP112AQDRLRQ1.pdf?src-supplier=Texas+Instruments; ComponentLink10Description: https://sigma.octopart.com:443/49249987/technical_drawing/Texas-Instruments-TMP112AQDRLRQ1.pdf?src-supplier=Texas+Instruments; ComponentLink11URL: https://datasheet.octopart.com:443/TMP112AQDRLRQ1-Texas-Instruments-datasheet-179559129.pdf?src-supplier=EBEE; ComponentLink11Description: https://datasheet.octopart.com:443/TMP112AQDRLRQ1-Texas-Instruments-datasheet-179559129.pdf?src-supplier=EBEE; ComponentLink12URL: https://datasheet.octopart.com:443/TMP112AQDRLRQ1-Texas-Instruments-datasheet-164419307.pdf?src-supplier=Augswan; ComponentLink12Description: https://datasheet.octopart.com:443/TMP112AQDRLRQ1-Texas-Instruments-datasheet-164419307.pdf?src-supplier=Augswan; ComponentLink13URL: https://datasheet.octopart.com:443/TMP112AQDRLRQ1-Texas-Instruments-datasheet-175642467.pdf?src-supplier=Arrow.cn; ComponentLink13Description: https://datasheet.octopart.com:443/TMP112AQDRLRQ1-Texas-Instruments-datasheet-175642467.pdf?src-supplier=Arrow.cn; ComponentLink14URL: http://sigma.octopart.com:80/conflict_mineral_statement/Texas-Instruments-company-63.pdf?src-supplier=Compliance+Statements; ComponentLink14Description: http://sigma.octopart.com:80/conflict_mineral_statement/Texas-Instruments-company-63.pdf?src-supplier=Compliance+Statements; ComponentLink15URL: http://sigma.octopart.com:80/reach_statement/Texas-Instruments-company-64.pdf?src-supplier=Compliance+Statements; ComponentLink15Description: http://sigma.octopart.com:80/reach_statement/Texas-Instruments-company-64.pdf?src-supplier=Compliance+Statements
pins: 1 SCL, 2 GND, 3 ALERT, 4 ADD0, 5 V+, 6 SDA

## TPD4E004DRYR
designator U?  Manufacturer Part Number: TPD4E004DRYR
TVS DIODE 5.5VWM 6SON; Manufacturer: Texas Instruments; Manufacturer Lifecycle Status: ACTIVE; Breakdown Voltage: 6V; Value: 2pF; Direction: Unidirectional; Interface: Ethernet, USB; Leakage Current: 1nA; Max Supply Voltage: 5.5V; Min Supply Voltage: 900mV; Number of Bidirectional Channels: 4; Operating Supply Voltage: 800mV; Power Line Protection: Yes; Supplier: DigiKey; Supplier Part Number: 296-23618-1-ND; RoHS: Compliant; Category: Integrated Circuits (ICs); Stock: 9915; Pricing: 1=0.52, 10=0.401, 100=0.3014 (USD); Depth: 1.05mm; Height: 600µm; Lead Free: Lead Free; Length: 1.45mm; Lifecycle Status: Production; Max Operating Temperature: 85°C; Min Breakdown Voltage: 6V; Min Operating Temperature: -40°C; Number of Channels: 4; Pins: 6; Radiation Hardening: No; REACH SVHC: No; Reverse Standoff Voltage: 5.5V; Schedule B: 8541100080, 8541100080|8541100080|8541100080|8541100080|8541100080; Termination: SMD/SMT; Thickness: 500µm; Width: 1mm; ComponentLink1URL: https://sigma.octopart.com:443/102529289/technical_drawing/Texas-Instruments-TPD4E004DRYR.pdf?src-supplier=Texas+Instruments; ComponentLink1Description: https://sigma.octopart.com:443/102529289/technical_drawing/Texas-Instruments-TPD4E004DRYR.pdf?src-supplier=Texas+Instruments; ComponentLink2URL: https://octopart.com:443/opatz8j6/c1?t=dwDFapF9EdpSS2zSfvkVbucg9x4b6psrGX-vjAEw3F7rJXY50U0sb8nlsuBjnDBvDnfpxtLBVFt3ysg-DEv4fLC2tiFDzBy1ljsj_mE-zrlkZ3weUpDHdu28BE8TdQDF520tsuZrqc0qcQCLKbJnMcva6Nwu_d0qoV16hmicJ6eJ8uKJDkFzsH4Yvo45p5EfkkCRZ5j0o1N7WHYoeODPWjR4ZhHQDlB7fPe2zZEEwlvhk7ohLurnsL1p9TVfjteIooTgm46GXLErsZ1tutTfaLMSJ4lq0jo7Bn7woT1jiROnFmUWiLHr4Q8CGe5LBo15h2u83hmaX060G0vbZdS7o8jXrY3dWD2RwTrHexVMuspS881YXq_L5JIjnfaTa9hs7imxMg&src-supplier=Texas+Instruments; ComponentLink2Description: https://octopart.com:443/opatz8j6/c1?t=dwDFapF9EdpSS2zSfvkVbucg9x4b6psrGX-vjAEw3F7rJXY50U0sb8nlsuBjnDBvDnfpxtLBVFt3ysg-DEv4fLC2tiFDzBy1ljsj_mE-zrlkZ3weUpDHdu28BE8TdQDF520tsuZrqc0qcQCLKbJnMcva6Nwu_d0qoV16hmicJ6eJ8uKJDkFzsH4Yvo45p5EfkkCRZ5j0o1N7WHYoeODPWjR4ZhHQDlB7fPe2zZEEwlvhk7ohLurnsL1p9TVfjteIooTgm46GXLErsZ1tutTfaLMSJ4lq0jo7Bn7woT1jiROnFmUWiLHr4Q8CGe5LBo15h2u83hmaX060G0vbZdS7o8jXrY3dWD2RwTrHexVMuspS881YXq_L5JIjnfaTa9hs7imxMg&src-supplier=Texas+Instruments; ComponentLink3URL: https://sigma.octopart.com:443/49249990/technical_drawing/Texas-Instruments-TPD4E004DRYR.pdf?src-supplier=Texas+Instruments; ComponentLink3Description: https://sigma.octopart.com:443/49249990/technical_drawing/Texas-Instruments-TPD4E004DRYR.pdf?src-supplier=Texas+Instruments; ComponentLink4URL: https://datasheet.octopart.com:443/TPD4E004DRYR-Texas-Instruments-datasheet-10288489.pdf?src-supplier=Texas+Instruments; ComponentLink4Description: https://datasheet.octopart.com:443/TPD4E004DRYR-Texas-Instruments-datasheet-10288489.pdf?src-supplier=Texas+Instruments; ComponentLink5URL: https://datasheet.octopart.com:443/TPD4E004DRYR-Texas-Instruments-datasheet-16079964.pdf?src-supplier=element14+APAC; ComponentLink5Description: https://datasheet.octopart.com:443/TPD4E004DRYR-Texas-Instruments-datasheet-16079964.pdf?src-supplier=element14+APAC; ComponentLink6URL: https://datasheet.octopart.com:443/TPD4E004DRYR-Texas-Instruments-datasheet-5395087.pdf?src-supplier=Newark; ComponentLink6Description: https://datasheet.octopart.com:443/TPD4E004DRYR-Texas-Instruments-datasheet-5395087.pdf?src-supplier=Newark; ComponentLink7URL: https://datasheet.octopart.com:443/TPD4E004DRYR-Texas-Instruments-datasheet-62333269.pdf?src-supplier=Newark; ComponentLink7Description: https://datasheet.octopart.com:443/TPD4E004DRYR-Texas-Instruments-datasheet-62333269.pdf?src-supplier=Newark; ComponentLink8URL: https://datasheet.octopart.com:443/TPD4E004DRYR-Texas-Instruments-datasheet-159117910.pdf?src-supplier=LCSC; ComponentLink8Description: https://datasheet.octopart.com:443/TPD4E004DRYR-Texas-Instruments-datasheet-159117910.pdf?src-supplier=LCSC; ComponentLink9URL: https://datasheet.octopart.com:443/TPD4E004DRYR-Texas-Instruments-datasheet-14050489.pdf?src-supplier=iiiC; ComponentLink9Description: https://datasheet.octopart.com:443/TPD4E004DRYR-Texas-Instruments-datasheet-14050489.pdf?src-supplier=iiiC; ComponentLink10URL: http://sigma.octopart.com:80/conflict_mineral_statement/Texas-Instruments-company-63.pdf?src-supplier=Compliance+Statements; ComponentLink10Description: http://sigma.octopart.com:80/conflict_mineral_statement/Texas-Instruments-company-63.pdf?src-supplier=Compliance+Statements; ComponentLink11URL: http://sigma.octopart.com:80/reach_statement/Texas-Instruments-company-64.pdf?src-supplier=Compliance+Statements; ComponentLink11Description: http://sigma.octopart.com:80/reach_statement/Texas-Instruments-company-64.pdf?src-supplier=Compliance+Statements
pins: 1 IO1, 2 IO2, 3 GND, 4 IO3, 5 IO4, 6 VCC